# EAGLE library part FTSH-107 (library con-samtec-FTSH)
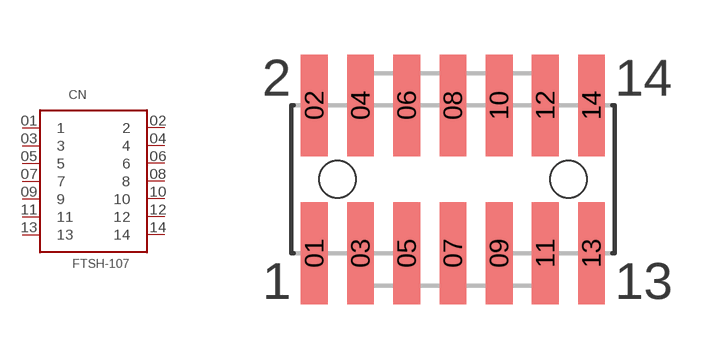
[diagram p0: symbol with the pads of FTSH-107-01-L-DV-K-A; footprint FTSH-107-01-L-DV-K-A]

Designator prefix CN

## FTSH-107  [FTSH-107-01-L-DV-K-A]
01  1
02  2
03  3
04  4
05  5
06  6
07  7
08  8
09  9
10  10
11  11
12  12
13  13
14  14

## Footprint FTSH-107-01-L-DV-K-A (pad centres in mm)
smd 0.737 x 2.794: 01 -3.81,-2.032; 02 -3.81,2.032; 03 -2.54,-2.032; 04 -2.54,2.032; 05 -1.27,-2.032; 06 -1.27,2.032; 07 0,-2.032; 08 0,2.032; 09 1.27,-2.032; 10 1.27,2.032; 11 2.54,-2.032; 12 2.54,2.032; 13 3.81,-2.032; 14 3.81,2.032
hole 1.016 at -3.175,0
hole 1.016 at 3.175,0